# Altium footprint library ARCAPCBLIB.PcbLib: 18 footprints (part 2 of 2)
Each footprint in its own frame and in the unit in brackets; x right, y up, seen from the top. Pads: shape width x height; smd on the part's side, far side on the other; paste and mask are expansions set on the pad; w line width, h text height; cw(c..) or ccw(c..) is an arc to the next point about the centre after c.
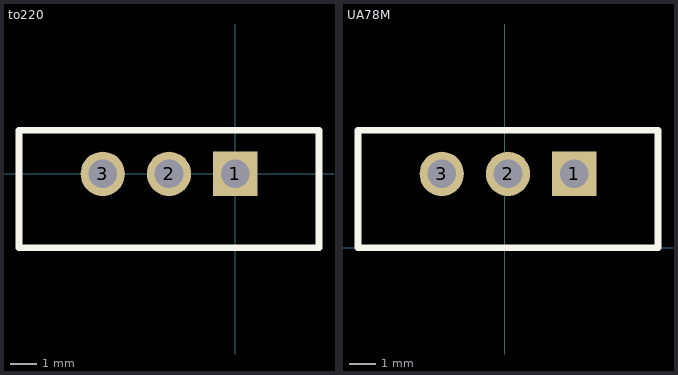
[diagram p1: the footprints below, top view; thin cyan lines are the x and y axes]

## to220 [mm]
pads (3):
  rect 1.7x1.7 hole 1.1: 1(0,0)
  round 1.7 hole 1.1: 2(-2.54,0) 3(-5.08,0)
Top Overlay:
  lines w0.254: -8.29,-2.829 3.21,-2.829 3.21,1.671 -8.29,1.671 -8.29,-2.829

## UA78M [mm] "TO220"
pads (3):
  rect 1.7x1.7 hole 1.1: 1(2.667,2.84)
  round 1.7 hole 1.1: 2(0.127,2.84) 3(-2.413,2.84)
Top Overlay:
  lines w0.254: -5.623,0.011 -5.623,4.511 5.877,4.511 5.877,0.011 -5.623,0.011